# Altium integrated library Ocean.IntLib: 60 symbols
Pins are listed as number, name and electrical type; pins without a type are passive.

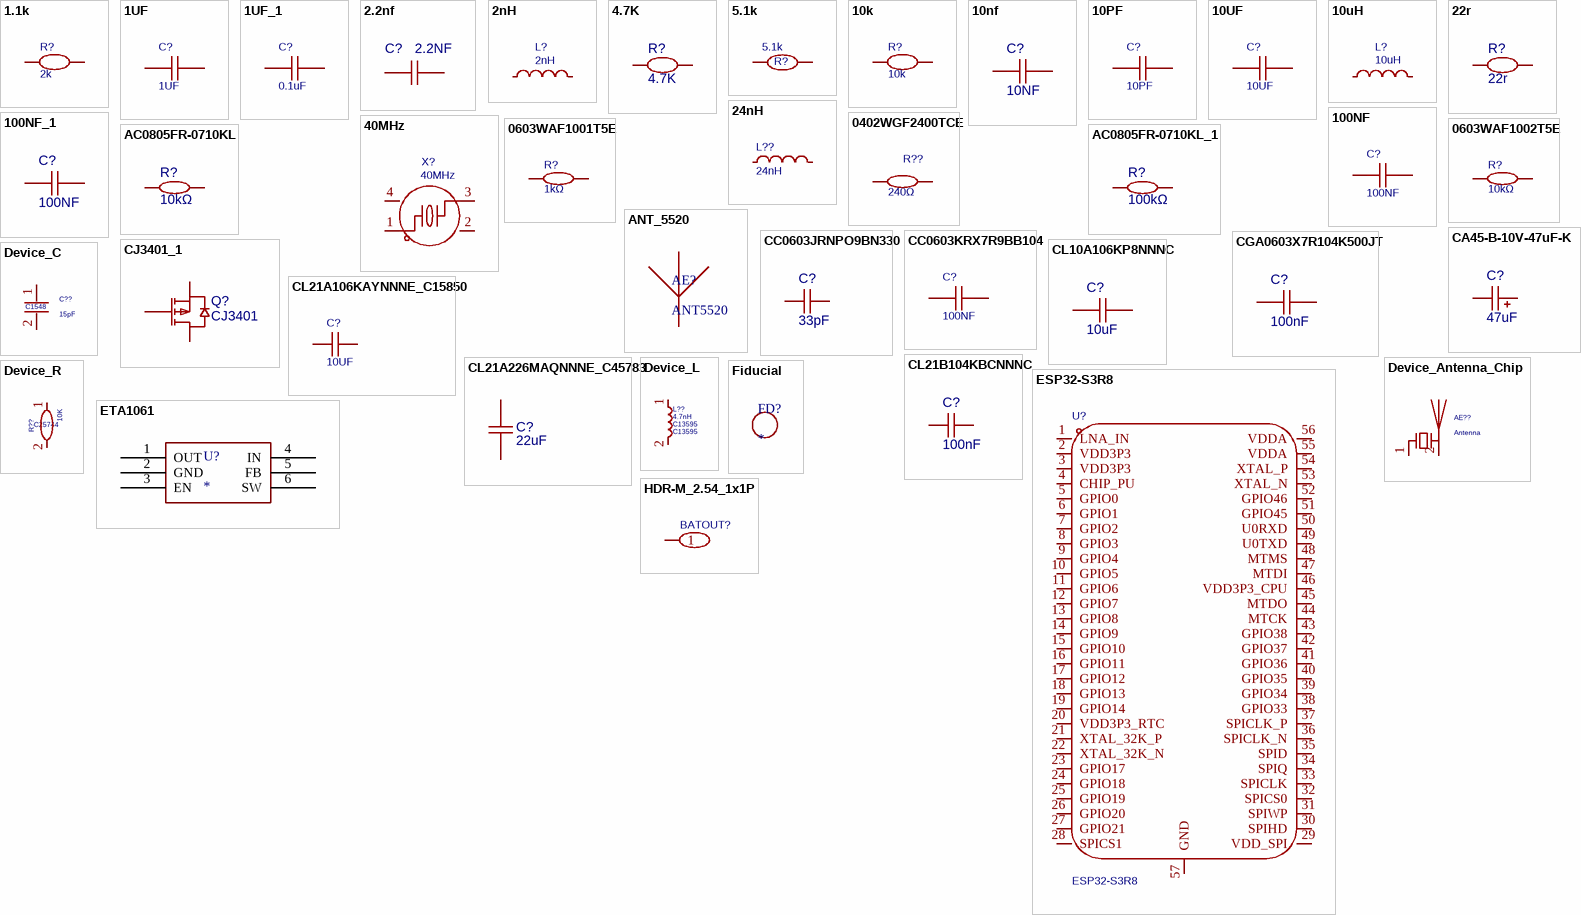
[diagram p0: symbols 1.1k to HDR-M_2.54_1x1P]

## 1.1k
designator R?, comment 2k
Symbol: 1.1k; Add into BOM: yes; Origin Footprint: R0603; ModelId: fc143cca1e79419f9cd78b61e9279f08; Device: 1.1k; Convert to PCB: yes; FootprintName: R0603; ModelName: R0603
footprint R0603
pins: 1, 2

## 1UF
designator C?
Add into BOM: yes; Origin Footprint: C0603; ModelId: fca5be93b99f4b5a9a2fd372d58c31d9; Symbol: 1UF; Device: 1UF; Convert to PCB: yes; FootprintName: C0603; ModelName: C0603
footprint C0402
pins: 1, 2

## 1UF_1
designator C?, comment 0.1uF
Symbol: 1UF; Add into BOM: yes; Origin Footprint: C0603; ModelId: fca5be93b99f4b5a9a2fd372d58c31d9; Device: 1UF; Convert to PCB: yes; FootprintName: C0603; ModelName: C0603
footprint C0603
pins: 1, 2

## 2.2nf
designator C?, comment 2.2NF
Add into BOM: yes; 3D Model: ac9b32e974bc448eab36b1293f859dcb; 3D Model Transform: v2:[39.37007874015748,0,0,0,39.37007874015748,0,0,0,39.37007874015748,0,0,0]; ModelName: C0603_L1.6-W0.8-H0.8; Symbol: 2.2nf; Device: 2.2nf; Convert to PCB: yes; FootprintName: C0603
footprint C0603
3D model C0603_L1.6-W0.8-H0.8
pins: 1, 2

## 2nH
designator L?
Add into BOM: yes; Origin Footprint: L0603; Symbol: 2nH; Device: 2nH; Convert to PCB: yes; FootprintName: L0603
footprint L0603
pins: 1, 2

## 4.7K
designator R?
Add into BOM: yes; 3D Model: 6bd5cd867e9542ebae21caaf5d2d4c4d; 3D Model Transform: v2:[2.410722045565656e-15,39.37007874015748,0,-39.37007874015748,2.410722045565656e-15,0,0,0,39.37007874015748,0,0,0]; ModelName: R0603; Symbol: 4.7K; Device: 4.7K; Convert to PCB: yes; FootprintName: R0603
footprint R0603
3D model R0603
pins: 1, 2

## 5.1k
designator R?
Add into BOM: yes; Origin Footprint: R0603; ModelId: fc143cca1e79419f9cd78b61e9279f08; Symbol: 5.1k; Device: 5.1k; Convert to PCB: yes; FootprintName: R0603; ModelName: R0603
footprint R0603
pins: 1, 2

## 10k
designator R?
Add into BOM: yes; Origin Footprint: R0603; ModelId: fc143cca1e79419f9cd78b61e9279f08; Symbol: 10k; Device: 10k; Convert to PCB: yes; FootprintName: R0603; ModelName: R0603
footprint R0603
pins: 1, 2

## 10nf
designator C?, comment 10NF
Add into BOM: yes; 3D Model: ac9b32e974bc448eab36b1293f859dcb; 3D Model Transform: v2:[39.37007874015748,0,0,0,39.37007874015748,0,0,0,39.37007874015748,0,0,0]; ModelName: C0603_L1.6-W0.8-H0.8; Symbol: 10nf; Device: 10nf; Convert to PCB: yes; FootprintName: C0603
footprint C0603
3D model C0603_L1.6-W0.8-H0.8
pins: 1, 2

## 10PF
designator C?
Add into BOM: yes; Origin Footprint: C0603; ModelId: fca5be93b99f4b5a9a2fd372d58c31d9; Symbol: 10PF; Device: 10PF; Convert to PCB: yes; FootprintName: C0603; ModelName: C0603
footprint C0603
pins: 1, 2

## 10UF
designator C?
Add into BOM: yes; Origin Footprint: C0603; ModelId: fca5be93b99f4b5a9a2fd372d58c31d9; Symbol: 10UF; Device: 10UF; Convert to PCB: yes; FootprintName: C0603; ModelName: C0603
footprint C0603
pins: 1, 2

## 10uH
designator L?
Manufacturer: SXN(顺翔诺); Add into BOM: yes; Origin Footprint: IND-SMD_L5.2-W5.2_MCW-0530; Symbol: 10uH; Device: 10uH; Convert to PCB: yes; Supplier: LCSC; Supplier Part: C181721; JLCPCB Part Class: Extended Part; FootprintName: IND-SMD_L5.2-W5.2_MCW-0530
footprint IND-SMD_L5.2-W5.2_MCW-0530
pins: 1, 2

## 22r
designator R?
Add into BOM: yes; 3D Model: 6bd5cd867e9542ebae21caaf5d2d4c4d; 3D Model Transform: v2:[2.410722045565656e-15,39.37007874015748,0,-39.37007874015748,2.410722045565656e-15,0,0,0,39.37007874015748,0,0,0]; ModelName: R0603; Symbol: 22r; Device: 22r; Convert to PCB: yes; FootprintName: R0603
footprint R0603
3D model R0603
pins: 1, 2

## 24nH
designator L??
Add into BOM: yes; Origin Footprint: L0603; Symbol: 24nH; Device: 24nH; Convert to PCB: yes; FootprintName: L0603
footprint L0603
pins: 1, 2

## 40MHz
designator X?
Manufacturer: JGHC(晶光华); Add into BOM: yes; Origin Footprint: CRYSTAL-SMD_4P-L2.5-W2.0-BL; ModelId: d23e0abc26e54c15b6292fd5f43702fa; Symbol: 40MHz; Device: 40MHz; Convert to PCB: yes; Supplier: LCSC; Supplier Part: C555614; JLCPCB Part Class: Extended Part; FootprintName: CRYSTAL-SMD_4P-L2.5-W2.0-BL; ModelName: CRYSTAL-SMD_4P-L2.5-W2.0-BL
footprint CRYSTAL-SMD_4P-L2.5-W2.0-BL
pins: 1, 2 GND, 3, 4 GND

## 100NF
designator C?
Add into BOM: yes; Origin Footprint: C0603; ModelId: fca5be93b99f4b5a9a2fd372d58c31d9; Symbol: 100NF; Device: 100NF; Convert to PCB: yes; FootprintName: C0603; ModelName: C0603
footprint C0603
pins: 1, 2

## 100NF_1
designator C?, comment 100NF
Symbol: 100NF_2; Device: 100NF_1; Add into BOM: yes; 3D Model: ac9b32e974bc448eab36b1293f859dcb; 3D Model Transform: v2:[39.37007874015748,0,0,0,39.37007874015748,0,0,0,39.37007874015748,0,0,0]; ModelName: C0603_L1.6-W0.8-H0.8; Convert to PCB: yes; FootprintName: C0603
footprint C0603
3D model C0603_L1.6-W0.8-H0.8
pins: 1, 2

## 0402WGF2400TCE
designator R??  value 240Ω  (hidden comment: 0402WGF2400TCE)
阻值:240Ω;精度:±1%;功率:62.5mW;温度系数:±100ppm/℃;电阻类型:厚膜电阻;; Manufacturer: UNI-ROYAL(厚声); AddInBom: yes; ModelId: 671aefced39d4c318694bba8bd8efd39; ModelName: R0402_L1.0-W0.5-H0.5; ModelTransform: 39.37,19.685,0,0,0,0,0,0.0005,0; Tolerance: ±1%; Power(Watts): 62.5mW; Overload Voltage (Max): 50V; JLCPCB Part Class: Extended Part; Symbol: 0402WGF2400TCE; Device: 0402WGF2400TCE; Supplier: LCSC; Manufacturer Part: 0402WGF2400TCE; Supplier Part: C25094; LCSC Part Name: 240Ω ±1% 62.5mW 厚膜电阻; Supplier Footprint: 0402; Datasheet: https://atta.szlcsc.com/upload/public/pdf/source/20200306/C422600_1E6D84923E4A46A82E41ADD87F860B5C.pdf; ConvertToPcb: yes; FootprintName: R0402; Temperature Coefficient: ±100ppm/℃; Type: 厚膜电阻; Operating Temperature Range: -55℃~+155℃
footprint R0402
pins: 1, 2

## 0603WAF1001T5E
designator R?, comment 1kΩ
电阻类型:厚膜电阻;阻值:1kΩ;精度:±1%;功率:100mW;工作电压:75V;温度系数:±100ppm/℃;; Manufacturer: UNI-ROYAL(厚声); Symbol: 0603WAF1001T5E; Add into BOM: yes; 3D Model: fc143cca1e79419f9cd78b61e9279f08; 3D Model Transform: 31.8897,63.7794,0,90,0,0,0,0,0; Tolerance: ±1%; Power(Watts): 100mW; Voltage-Supply(Max): 75V; ModelName: R0603; Device: 0603WAF1001T5E; Convert to PCB: yes; Supplier Part: C21190; Supplier: LCSC; Manufacturer Part: 0603WAF1001T5E; LCSC Part Name: 1kΩ ±1% 100mW 厚膜电阻; Supplier Footprint: 0603; JLCPCB Part Class: Basic Part; Datasheet: https://item.szlcsc.com/datasheet/0603WAF1001T5E/21904.html; Type: 厚膜电阻; Value: 1kΩ; Temperature Coefficient: ±100ppm/℃; Operating Temperature: -55℃~+155℃; FootprintName: R0603
footprint R0603
3D model R0603
pins: 1, 2

## 0603WAF1002T5E
designator R?, comment 10kΩ
电阻类型:厚膜电阻;阻值:10kΩ;精度:±1%;功率:100mW;工作电压:75V;温度系数:±100ppm/℃;; Manufacturer: UNI-ROYAL(厚声); Symbol: 0603WAF1002T5E; Add into BOM: yes; 3D Model: fc143cca1e79419f9cd78b61e9279f08; 3D Model Transform: 31.8897,63.7794,0,90,0,0,0,0,0; Tolerance: ±1%; Power(Watts): 100mW; Voltage-Supply(Max): 75V; ModelName: R0603; Device: 0603WAF1002T5E; Convert to PCB: yes; Supplier Part: C25804; Supplier: LCSC; Manufacturer Part: 0603WAF1002T5E; LCSC Part Name: 厚膜电阻 10kΩ ±1% 100mW; Supplier Footprint: 0603; JLCPCB Part Class: Basic Part; Datasheet: https://item.szlcsc.com/datasheet/0603WAF1002T5E/26547.html; Type: 厚膜电阻; Value: 10kΩ; Temperature Coefficient: ±100ppm/℃; Operating Temperature: -55℃~+155℃; FootprintName: R0603
footprint R0603
3D model R0603
pins: 1, 2

## AC0805FR-0710KL
designator R?, comment 10kΩ
电阻类型:厚膜电阻;阻值:10kΩ;精度:±1%;功率:125mW;; Manufacturer: YAGEO(国巨); Symbol: 10K_1; Device: AC0805FR-0710KL; Add into BOM: yes; Origin Footprint: R0805; 3D Model: 37a81e68749a4138bd2dfa6897b24b85; 3D Model Transform: 78.74,51.181,0,0,0,0,0,-0.0005,0; Tolerance: ±1%; Power(Watts): 125mW; Temperature Coefficient: ±100ppm/℃; Overload Voltage (Max): 150V; ModelName: R0805_L2.0-W1.3-H0.6; Convert to PCB: yes; Resistance: 10kΩ; LCSC Part Name: 10kΩ ±1% 125mW; Supplier Part: C140868; Manufacturer Part: AC0805FR-0710KL; Supplier Footprint: 0805; JLCPCB Part Class: Extended Part; Datasheet: https://atta.szlcsc.com/upload/public/pdf/source/20171113/C140868_15105613027091115785.pdf; Supplier: LCSC; Type: 厚膜电阻; Value: 10kΩ; Operating Temperature Range: -55℃~+155℃; FootprintName: R0603
footprint R0603
3D model R0805_L2.0-W1.3-H0.6
pins: 1, 2

## AC0805FR-0710KL_1
designator R?, comment 100kΩ
电阻类型:厚膜电阻;阻值:10kΩ;精度:±1%;功率:125mW;; Manufacturer: YAGEO(国巨); Symbol: 10K_1; Device: AC0805FR-0710KL; Add into BOM: yes; Origin Footprint: R0805; 3D Model: 37a81e68749a4138bd2dfa6897b24b85; 3D Model Transform: 78.74,51.181,0,0,0,0,0,-0.0005,0; Tolerance: ±1%; Power(Watts): 125mW; Temperature Coefficient: ±100ppm/℃; Overload Voltage (Max): 150V; ModelName: R0805_L2.0-W1.3-H0.6; Convert to PCB: yes; Value: 100kΩ; Resistance: 100kΩ; LCSC Part Name: 10kΩ ±1% 125mW; Manufacturer Part: AC0805FR-0710KL; Supplier Footprint: 0805; JLCPCB Part Class: Extended Part; Datasheet: https://atta.szlcsc.com/upload/public/pdf/source/20171113/C140868_15105613027091115785.pdf; Supplier: LCSC; Type: 厚膜电阻; Operating Temperature Range: -55℃~+155℃; FootprintName: R0603
footprint R0603
3D model R0805_L2.0-W1.3-H0.6
pins: 1, 2

## ANT_5520
designator AE?, comment ANT5520
footprint ANT_5520
pins: 1 ANT, 2

## CA45-B-10V-47uF-K
designator C?, comment 47uF
容值:47uF;精度:±10%;额定电压:10V;等效串联电阻:2.4Ω@100kHz;; Manufacturer: CEC(振华新云); Device: CA45-B-10V-47uF-K; Add into BOM: yes; Origin Footprint: CAP-SMD_L3.5-W2.8-R-RD; 3D Model: b77bd53aeda446d2bdd09b0fdaf9418a; 3D Model Transform: 145.669,110.236,0,0,0,0,0,0,0; Tolerance: ±10%; Rated Voltage: 10V; ModelName: CASE-B_L3.5-W2.8-H1.9; Symbol: 47uF; Convert to PCB: yes; LCSC Part Name: 47uF ±10% 10V; Supplier Part: C136658; Manufacturer Part: CA45-B-10V-47uF-K; Supplier Footprint: CASE-B-3528; JLCPCB Part Class: Extended Part; Datasheet: https://atta.szlcsc.com/upload/public/pdf/source/20171123/C136658_15114108124621137439.pdf; Supplier: LCSC; Value: 47uF; Equivalent Series Resistance(ESR): 2.4Ω@100kHz; Operating Temperature: -55℃~+125℃; FootprintName: CASE-B_3528
footprint CASE-B_3528
3D model CASE-B_L3.5-W2.8-H1.9
pins: 1, 2

## CC0603JRNPO9BN330
designator C?, comment 33pF
容值:33pF;精度:±5%;额定电压:50V;温度系数:NP0;; Manufacturer: YAGEO(国巨); Symbol: CC0603JRNPO9BN330; Add into BOM: yes; 3D Model: ac9b32e974bc448eab36b1293f859dcb; 3D Model Transform: 62.992,31.496,0,0,0,0,0,0,0; Tolerance: ±5%; Voltage Rating: 50V; Temperature Coefficient: NP0; ModelName: C0603_L1.6-W0.8-H0.8; Device: CC0603JRNPO9BN330; Convert to PCB: yes; LCSC Part Name: 33pF ±5% 50V; Supplier Part: C107047; Manufacturer Part: CC0603JRNPO9BN330; Supplier Footprint: 0603; JLCPCB Part Class: Extended Part; Datasheet: https://item.szlcsc.com/datasheet/CC0603JRNPO9BN330/108263.html; Supplier: LCSC; Value: 33pF; FootprintName: C0603
footprint C0603
3D model C0603_L1.6-W0.8-H0.8
pins: 1, 2

## CC0603KRX7R9BB104
designator C?, comment 100NF
容值:100nF;精度:±10%;额定电压:50V;材质(温度系数):X7R;; Manufacturer: YAGEO(国巨); Symbol: CC0603KRX7R9BB104; 3D Model: ac125912035d415993ca9572d50418b1; 3D Model Transform: 62.992,31.496,0,0,0,0,0,0,0; Tolerance: ±10%; Voltage Rated: 50V; Temperature Coefficient: X7R; AddInBom: yes; ModelName: C0603_L1.6-W0.8-H0.8; Device: CC0603KRX7R9BB104; LCSC Part Name: 100nF ±10% 50V; Manufacturer Part: CC0603KRX7R9BB104; Supplier Footprint: 0603; JLCPCB Part Class: 基础库; Datasheet: https://atta.szlcsc.com/upload/public/pdf/source/20180910/C282072_33301C7F631E79921B82A8DAC6BCC5B3.pdf; Supplier: LCSC; Value: 100NF; ConvertToPcb: yes; FootprintName: C0603
footprint C0603
3D model C0603_L1.6-W0.8-H0.8
pins: 1, 2

## CGA0603X7R104K500JT
designator C?, comment 100nF
容值:100nF;精度:±10%;额定电压:50V;温度系数:X7R;; Manufacturer: HRE(芯声); Symbol: CGA0603X7R104K500JT; Add into BOM: yes; 3D Model: ac9b32e974bc448eab36b1293f859dcb; 3D Model Transform: 62.992,31.496,0,0,0,0,0,0,0; Tolerance: ±10%; Voltage Rating: 50V; Temperature Coefficient: X7R; ModelName: C0603_L1.6-W0.8-H0.8; Device: CGA0603X7R104K500JT; Convert to PCB: yes; LCSC Part Name: 100nF ±10% 50V; Supplier Part: C6119867; Manufacturer Part: CGA0603X7R104K500JT; Supplier Footprint: 0603; JLCPCB Part Class: Extended Part; Datasheet: https://item.szlcsc.com/datasheet/CGA0603X7R104K500JT/7062573.html; Supplier: LCSC; Value: 100nF; FootprintName: C0603
footprint C0603
3D model C0603_L1.6-W0.8-H0.8
pins: 1, 2

## CJ3401_1
designator Q?, comment CJ3401
类型:P沟道;漏源电压(Vdss):30V;连续漏极电流(Id):4.2A;功率(Pd):350mW;导通电阻(RDS(on)@Vgs,Id):65mΩ@10V,4.2A;; Manufacturer: CJ(江苏长电/长晶); Device: CJ3401_1; Add into BOM: yes; Origin Footprint: SOT-23-3_L2.9-W1.6-P1.90-LS2.8-BR; 3D Model: 89cb27a44ab2466697082bb9fd73a7d0; 3D Model Transform: 110.236,114.173,0,180,0,0,-0.005,0.0005,0; Type: P沟道; Drain Source Voltage (Vdss): 30V; Power Dissipation (Pd): 350mW; Gate Threshold Voltage (Vgs(th)@Id): 1.3V@250uA; ModelName: SOT-23-3L_L2.9-W1.6-H1.1-LS2.8-P0.95; Symbol: CJ3401; Convert to PCB: yes; LCSC Part Name: P沟道 30V 4.2A; Supplier Part: C13799; Manufacturer Part: CJ3401; Supplier Footprint: SOT-23; JLCPCB Part Class: Extended Part; Datasheet: https://atta.szlcsc.com/upload/public/pdf/source/20140815/1457707217656.pdf; Supplier: LCSC; Continuous Drain Current (Id): 4.2A; Drain Source On Resistance (RDS(on)@Vgs,Id): 65mΩ@10V,4.2A; FootprintName: SOT-23-3_L2.9-W1.6-P1.90-LS2.8-BR_1
footprint SOT-23-3_L2.9-W1.6-P1.90-LS2.8-BR_1
3D model SOT-23-3L_L2.9-W1.6-H1.1-LS2.8-P0.95
pins: 1 G, 2 S, 3 D

## CL10A106KP8NNNC
designator C?, comment 10uF
容值:10uF;精度:±10%;额定电压:10V;温度系数:X5R;; Manufacturer: SAMSUNG(三星); Symbol: CL10A106KP8NNNC; Add into BOM: yes; 3D Model: 1ba041120af144c991958decab20d241; 3D Model Transform: 62.992,31.496,0,0,0,0,0,0,0; Tolerance: ±10%; Temperature Coefficient: X5R; Voltage Rating: 10V; ModelName: C0603_L1.6-W0.8-H0.8; Device: CL10A106KP8NNNC; Convert to PCB: yes; LCSC Part Name: 10uF ±10% 10V; Supplier Part: C19702; Manufacturer Part: CL10A106KP8NNNC; Supplier Footprint: 0603; JLCPCB Part Class: Basic Part; Datasheet: https://item.szlcsc.com/datasheet/CL10A106KP8NNNC/20411.html; Supplier: LCSC; Value: 10uF; FootprintName: C0603
footprint C0603
3D model C0603_L1.6-W0.8-H0.8
pins: 1, 2

## CL21A106KAYNNNE_C15850
designator C?, comment 10UF
容值:10uF;精度:±10%;额定电压:25V;材质(温度系数):X5R;; Manufacturer: SAMSUNG(三星); Symbol: CL21A106KAYNNNE; Device: CL21A106KAYNNNE_C15850; 3D Model: 1ba041120af144c991958decab20d241; 3D Model Transform: 78.74,51.181,0,0,0,0,0,0.0005,0; Tolerance: ±10%; Voltage Rated: 25V; Temperature Coefficient: X5R; AddInBom: yes; ModelName: C0805_L2.0-W1.3-H1.3; LCSC Part Name: 10uF ±10% 25V; Manufacturer Part: CL21A106KAYNNNE; Supplier Footprint: 0805; JLCPCB Part Class: 基础库; Datasheet: https://atta.szlcsc.com/upload/public/pdf/source/20160103/1457707679302.pdf; Supplier: LCSC; Value: 10UF; ConvertToPcb: yes; FootprintName: C0805
footprint C0805
3D model C0805_L2.0-W1.3-H1.3
pins: 1, 2

## CL21A226MAQNNNE_C45783
designator C?, comment 22uF
容值:22uF;精度:±20%;额定电压:25V;材质(温度系数):X5R;; Manufacturer: SAMSUNG(三星); Manufacturer Part: CL21A226MAQNNNE; Device: CL21A226MAQNNNE_C45783; Add into BOM: yes; Origin Footprint: C0805; 3D Model: 1ba041120af144c991958decab20d241; 3D Model Transform: 78.74,51.181,0,0,0,0,0,0.0005,0; Tolerance: ±20%; Voltage Rated: 25V; Temperature Coefficient: X5R; ModelName: C0805_L2.0-W1.3-H1.3; Symbol: 22uF; Convert to PCB: yes; LCSC Part Name: 22uF ±20% 25V; Supplier Part: C45783; Supplier Footprint: 0805; JLCPCB Part Class: Basic Part; Datasheet: https://atta.szlcsc.com/upload/public/pdf/source/20160103/1457707727161.pdf; Supplier: LCSC; Value: 22uF; FootprintName: C0603
footprint C0603
3D model C0805_L2.0-W1.3-H1.3
pins: 1, 2

## CL21B104KBCNNNC
designator C?, comment 100nF
容值:100nF;精度:±10%;额定电压:50V;材质(温度系数):X7R;; Manufacturer: SAMSUNG(三星); Symbol: 100nF_1; Device: CL21B104KBCNNNC; Add into BOM: yes; Origin Footprint: C0805; 3D Model: 1ba041120af144c991958decab20d241; 3D Model Transform: 78.74,51.181,0,0,0,0,0,0.0005,0; Tolerance: ±10%; Voltage Rated: 50V; Temperature Coefficient: X7R; ModelName: C0805_L2.0-W1.3-H1.3; Convert to PCB: yes; LCSC Part Name: 100nF ±10% 50V; Supplier Part: C1711; Manufacturer Part: CL21B104KBCNNNC; Supplier Footprint: 0805; JLCPCB Part Class: Extended Part; Datasheet: https://atta.szlcsc.com/upload/public/pdf/source/20160103/1457707693305.pdf; Supplier: LCSC; Value: 100nF; FootprintName: C0603
footprint C0603
3D model C0805_L2.0-W1.3-H1.3
pins: 1, 2

## Device_Antenna_Chip
designator AE??  value Antenna  (hidden comment: Device_Antenna_Chip)
UniqueId: fd78ff43abfaca39; Attribute1: AE1; AddInBom: yes; Device: Device_Antenna_Chip; Symbol: Device_Antenna_Chip; UserDocLink: ~; ki_keywords: antenna; FootprintName: RF_Antenna:Texas_SWRA117D_2.4GHz_Left
footprint RF_Antenna:Texas_SWRA117D_2.4GHz_Left
pins: 1 FEED, 2 PCB_Trace

## Device_C
designator C??, comment LCSC: C1548  (hidden comment: 15pF)
Device: Device_C; ki_keywords: cap capacitor; ki_fp_filters: C_*; UniqueId: 7237750993165679; Attribute1: C39; AddInBom: yes; Symbol: Device_C; UserDocLink: ~; MNF PART NUMBER: C1548; FootprintName: Capacitor_SMD:C_0402_1005Metric; Value: 15pF
footprint Capacitor_SMD:C_0402_1005Metric
pins: 1, 2

## Device_L
designator L??, comment MNF PART NUMBER: C13595  (hidden comment: 4.7nH)
Inductor; Device: Device_L; ki_keywords: inductor choke coil reactor magnetic; ki_fp_filters: Choke_* *Coil* Inductor_* L_*; UniqueId: 01f5988480b85854; Attribute1: L6; AddInBom: yes; Symbol: Device_L; UserDocLink: ~; FootprintName: Inductor_SMD:L_0402_1005Metric; Value: 4.7nH; LCSC: C13595
footprint Inductor_SMD:L_0402_1005Metric
pins: 1, 2

## Device_R
designator R??, comment LCSC: C25744  (hidden comment: 10K)
Device: Device_R; ki_keywords: R res resistor; ki_fp_filters: R_*; UniqueId: c67641ae573ea1fc; Attribute1: R28; AddInBom: yes; Symbol: Device_R; UserDocLink: ~; MNF PART NUMBER: C25744; FootprintName: Resistor_SMD:R_0402_1005Metric; Value: 10K
footprint Resistor_SMD:R_0402_1005Metric
pins: 1, 2

## ESP32-S3R8
designator U?
频率范围:2.412GHz~2.484GHz;接口类型:I2C；I2S；UART；USB；SPI;应用领域:蓝牙；IoT；WiFi;数据速率:150Mbps;灵敏度:-74.2dBm;典型应用频率:2.4GHz;; Manufacturer: ESPRESSIF(乐鑫); Symbol: ESP32-S3(R8); Add into BOM: yes; 3D Model: 105b388c0c03439aa7dbf35dd2b762a6; 3D Model Transform: 275.59,275.59,0,0,0,0,0,0,0; Voltage - Supply: 3V~3.6V; Output Power: 18.5dBm; Current Of Transmitting: 283mA; Receive Current: 88mA; Typical Application Frequency: 2.4GHz; ModelName: QFN-56_L7.0-W7.0-P0.40-TL-EP4.0; Device: ESP32-S3R8; Convert to PCB: yes; Supplier: LCSC; Supplier Part: C2913194; Manufacturer Part: ESP32-S3R8; JLCPCB Part Class: Extended Part; LCSC Part Name: 2.4GHz Wi-Fi + 低功耗蓝牙系统级芯片（SoC）; Supplier Footprint: QFN-56(7x7); Datasheet: https://item.szlcsc.com/datasheet/ESP32-S3R8/3198292.html; Frequency Range: 2.412GHz~2.484GHz; Interface: I2C；I2S；UART；USB；SPI; Applications: 蓝牙；IoT；WiFi; Data Rate: 150Mbps; Sensitivity: -74.2dBm; Operating Temperature: -40℃~+65℃; Type: 收发器; FootprintName: QFN-56_L7.0-W7.0-P0.40-TL-EP4.0
footprint QFN-56_L7.0-W7.0-P0.40-TL-EP4.0
3D model QFN-56_L7.0-W7.0-P0.40-TL-EP4.0
pins: 1 LNA_IN, 2 VDD3P3, 3 VDD3P3, 4 CHIP_PU, 5 GPIO0, 6 GPIO1, 7 GPIO2, 8 GPIO3, 9 GPIO4, 10 GPIO5, 11 GPIO6, 12 GPIO7, 13 GPIO8, 14 GPIO9, 15 GPIO10, 16 GPIO11, 17 GPIO12, 18 GPIO13, 19 GPIO14, 20 VDD3P3_RTC, 21 XTAL_32K_P, 22 XTAL_32K_N, 23 GPIO17, 24 GPIO18, 25 GPIO19, 26 GPIO20, 27 GPIO21, 28 SPICS1, 29 VDD_SPI, 30 SPIHD, 31 SPIWP, 32 SPICS0, 33 SPICLK, 34 SPIQ, 35 SPID, 36 SPICLK_N, 37 SPICLK_P, 38 GPIO33, 39 GPIO34, 40 GPIO35, 41 GPIO36, 42 GPIO37, 43 GPIO38, 44 MTCK, 45 MTDO, 46 VDD3P3_CPU, 47 MTDI, 48 MTMS, 49 U0TXD, 50 U0RXD, 51 GPIO45, 52 GPIO46, 53 XTAL_N, 54 XTAL_P, 55 VDDA, 56 VDDA, 57 GND

## ETA1061
designator U?
footprint SOT-23-6_L2.9-W1.6-P0.95-LS2.8-BL
pins: 1 OUT, 2 GND, 3 EN, 4 IN, 5 FB, 6 SW

## Fiducial
designator FD?
footprint FIDUCIAL_1MM

## HDR-M_2.54_1x1P
designator BATOUT?
Symbol: HDR_1x1; Device: HDR-M_2.54_1x1P; ConvertToPcb: yes; ModelId: 95857080d3cc4057a19a22ccce05e171聨0819f05c4eef4c71ace90d822a990e87; ModelName: HDR-TH_1P-V-M_XKB_X4611WV-01I-C28D40; ModelTransform: 78.74,79.1337,0,0,0,0,0,0,-110.236; AddInBom: yes; SupplierPart: C81276; Supplier Footprint: 插件; FootprintName: HDR-TH_1P-V-M_XKB_X4611WV-01I-C28D40; JLCPCB Part Class: Extended Part
footprint HDR-TH_1P-V-M_XKB_X4611WV-01I-C28D40
pins: 1

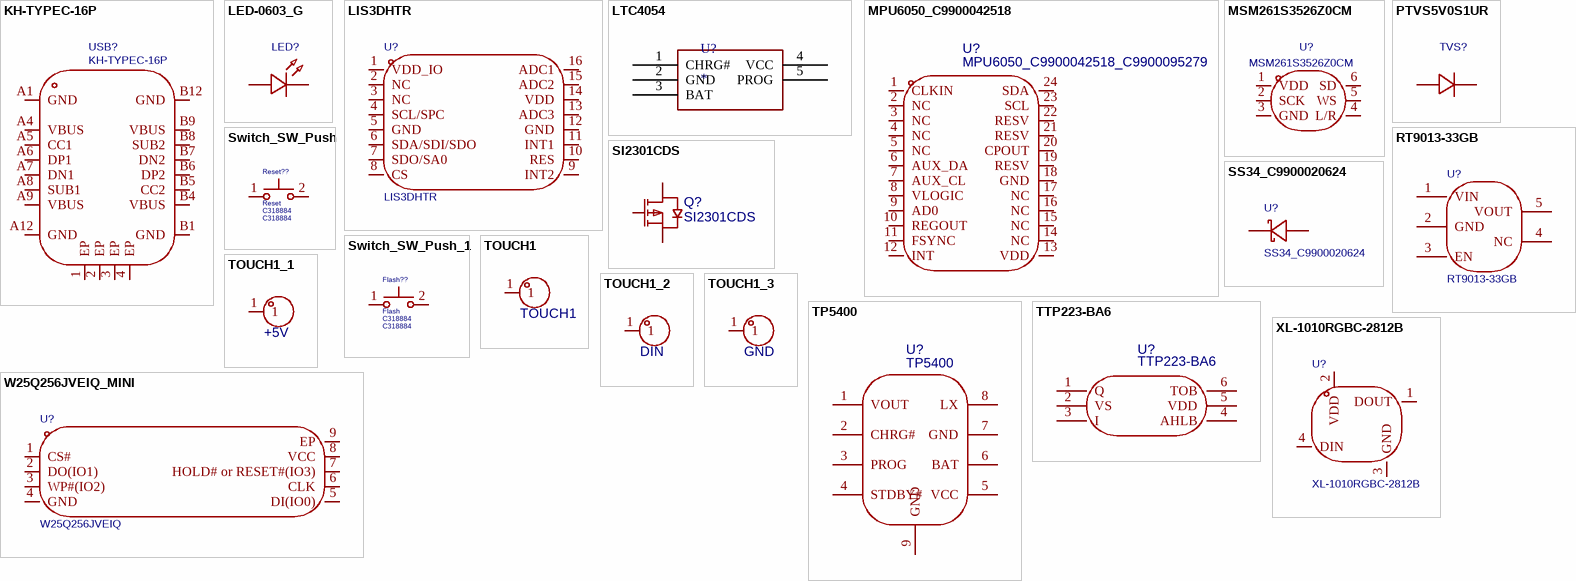
[diagram p1: symbols KH-TYPEC-16P to XL-1010RGBC-2812B]

## KH-TYPEC-16P
designator USB?
Add into BOM: yes; Origin Footprint: USB-TYPEC-16P; 是否验证: 是; Symbol: KH-TYPEC-16P; Device: KH-TYPEC-16P; Convert to PCB: yes; FootprintName: USB-TYPEC-16P
footprint USB-TYPEC-16P
footprint USB-TYPEC-16P-SMD
pins: 1 EP, 2 EP, 3 EP, 4 EP, A1 GND, A4 VBUS, A5 CC1, A6 DP1, A7 DN1, A8 SUB1, A9 VBUS, A12 GND, B1 GND, B4 VBUS, B5 CC2, B6 DP2, B7 DN2, B8 SUB2, B9 VBUS, B12 GND

## LED-0603_G
designator LED?  (value not drawn)
Manufacturer: EVERLIGHT(台湾亿光); Manufacturer Part: 19-217/GHC-YR1S2/3T; Add into BOM: yes; Origin Footprint: LED0603_GREEN; ModelId: 8b5fcaf0229049f8a37a9c352bb0ca0a; Symbol: LED-0603_G; Device: LED-0603_G; Convert to PCB: yes; Supplier Part: C72043; Supplier: LCSC; FootprintName: LED0603_GREEN; ModelName: LED-0603_G
footprint LED0603_GREEN
pins: 1, 2

## LIS3DHTR
designator U?
轴向:X,Y,Z;; Manufacturer: ST(意法半导体); Symbol: LIS3DHTR_C15134; AddInBom: yes; ModelId: 9ae441d1842848bda5fda48efd45bd94; ModelName: LGA-16_L3.0-W3.0-P0.50-TL; ModelTransform: 118.11,118.11,0,0,0,0,0,0,0; Axial Direction: X,Y,Z; Supply Voltage: 1.71V~3.6V; Device: LIS3DHTR; LCSC Part Name: LIS3DHTR; SupplierPart: C15134; ManufacturerPart: LIS3DHTR; Supplier Footprint: LGA-16(3x3); JLCPCB Part Class: 扩展库; Datasheet: https://atta.szlcsc.com/upload/public/pdf/source/20170502/1493709336456.pdf; Supplier: LCSC; ConvertToPcb: yes; FootprintName: LGA-16_L3.0-W3.0-P0.50-TL; Operating Temperature: -40℃~+85℃
footprint LGA-16_L3.0-W3.0-P0.50-TL
pins: 1 VDD_IO, 2 NC, 3 NC, 4 SCL/SPC, 5 GND, 6 SDA/SDI/SDO, 7 SDO/SA0, 8 CS, 9 INT2, 10 RES, 11 INT1, 12 GND, 13 ADC3, 14 VDD, 15 ADC2, 16 ADC1

## LTC4054
designator U?
footprint SOT-23-5_L3.0-W1.7-P0.95-LS2.8-BL
pins: 1 CHRG#, 2 GND, 3 BAT, 4 VCC, 5 PROG

## MPU6050_C9900042518
designator U?, comment MPU6050_C9900042518_C9900095279
Manufacturer: null; Add into BOM: yes; Symbol: MPU6050_C9900042518_C9900095279; Device: MPU6050_C9900042518; Convert to PCB: yes; Supplier: LCSC; Supplier Part: C9900095279; Manufacturer Part: MPU6050_C9900042518; JLCPCB Part Class: Extended Part; FootprintName: QFN-24_L4.0-W4.0-P0.50-BL
footprint QFN-24_L4.0-W4.0-P0.50-BL
pins: 1 CLKIN, 2 NC, 3 NC, 4 NC, 5 NC, 6 AUX_DA, 7 AUX_CL, 8 VLOGIC, 9 AD0, 10 REGOUT, 11 FSYNC, 12 INT, 13 VDD, 14 NC, 15 NC, 16 NC, 17 NC, 18 GND, 19 RESV, 20 CPOUT, 21 RESV, 22 RESV, 23 SCL, 24 SDA

## MSM261S3526Z0CM
designator U?
方向:全指向;信噪比:64dB;灵敏度:-26dB;阻抗:-;; Manufacturer: MEMS(敏芯微); Symbol: MSM261S3526Z0CM_1; Add into BOM: yes; 3D Model: 76b3790cc1704d2883f926567aae47b1; 3D Model Transform: 106.299,137.795,0,0,0,0,0,0,0; Direction: 全指向; Supply Voltage: 1.8V; Current Consumption: 750uA; SNR(Signal to Noise Ratio): 64dB; Sensitivity: -26dB; ModelName: MIC-SMD_6P-L3.5-W2.7-P0.90-TR; Device: MSM261S3526Z0CM; Convert to PCB: yes; Supplier: LCSC; Supplier Part: C966933; Manufacturer Part: MSM261S3526Z0CM; JLCPCB Part Class: Extended Part; LCSC Part Name: MSM261S3526Z0CM; Supplier Footprint: LGA-6(2.7x3.5); Datasheet: https://atta.szlcsc.com/upload/public/pdf/source/20210104/C966933_3269232C81BB891E12095FC7E88FC637.pdf; Impedance: -; FootprintName: MIC-SMD_6P-L3.5-W2.7-P0.90-TR
footprint MIC-SMD_6P-L3.5-W2.7-P0.90-TR
3D model MIC-SMD_6P-L3.5-W2.7-P0.90-TR
pins: 1 VDD, 2 SCK, 3 GND, 4 L/R, 5 WS, 6 SD

## PTVS5V0S1UR
designator TVS?  (value not drawn)
Manufacturer: EVERLIGHT(台湾亿光); Manufacturer Part: 19-217/GHC-YR1S2/3T; Symbol: LED-0603_G; Add into BOM: yes; Origin Footprint: LED0603_GREEN; ModelId: 8b5fcaf0229049f8a37a9c352bb0ca0a; Device: LED-0603_G; Convert to PCB: yes; Supplier Part: C72043; Supplier: LCSC; FootprintName: LED0603_GREEN; ModelName: LED-0603_G
footprint PTVS5V0S1UR-SMD
pins: 1, 2

## RT9013-33GB
designator U?
输出类型:固定;输出极性:正;最大输入电压:5.5V;输出电压:3.3V;输出电流:500mA;电源纹波抑制比(PSRR):50dB@(10kHz);; Manufacturer: RICHTEK(立锜); 3D Model: 0a2a1b8f50944f73965918ad6e5fe167; 3D Model Transform: 118.60433,114.173,0,90,0,0,0.0005,0.0005,0; Output Type: 固定; Output Polarity: 正; Number of Outputs: 1; Maximum Input Voltage: 5.5V; Output Voltage: 3.3V; Dropout Voltage: 400mV@(500mA); Quiescent Current (Ground Current): 50uA; Output Current: 500mA; AddInBom: yes; ModelName: SOT-23-5_L2.9-W1.6-H1.1-LS2.8-P0.95; Symbol: RT9013-33GB; Device: RT9013-33GB; LCSC Part Name: 输入5.5V 输出3.3V 500mA; Supplier Footprint: SOT-23-5; Datasheet: https://atta.szlcsc.com/upload/public/pdf/source/20150504/1457707282459.pdf; Power Supply Rejection Ratio (PSRR): 50dB@(10kHz); Noise: -; Feature: -; Operating Temperature: -40℃~+85℃; Supplier: LCSC; Manufacturer Part: RT9013-33GB; Supplier Part: C47773; JLCPCB Part Class: 扩展库; ConvertToPcb: yes; FootprintName: SOT-23-5_L3.0-W1.7-P0.95-LS2.8-BL
footprint SOT-23-5_L3.0-W1.7-P0.95-LS2.8-BL
3D model SOT-23-5_L2.9-W1.6-H1.1-LS2.8-P0.95
pins: 1 VIN, 2 GND, 3 EN, 4 NC, 5 VOUT

## SI2301CDS
designator Q?
Manufacturer: TECH PUBLIC(台舟); Add into BOM: yes; 3D Model: d777607a152f4f3aac9bb0d0c14ed6fd; 3D Model Transform: v2:[-39.37007874015748,4.821444091131312e-15,0,-4.821444091131312e-15,-39.37007874015748,0,0,0,39.37007874015748,0.001,-0.001,0]; ModelName: SOT-23-3P_L2.9-W1.3-H1.0-LS2.4-P0.95; Symbol: SI2301CDS; Device: SI2301CDS; Convert to PCB: yes; Supplier: LCSC; Supplier Part: C2841446; Manufacturer Part: SI2301CDS; JLCPCB Part Class: Extended Part; FootprintName: SOT-23-3_L2.9-W1.3-P1.90-LS2.4-BR
footprint SOT-23-3_L2.9-W1.3-P1.90-LS2.4-BR
3D model SOT-23-3P_L2.9-W1.3-H1.0-LS2.4-P0.95
pins: 1 G, 2 S, 3 D

## SS34_C9900020624
designator U?
Manufacturer: null; Add into BOM: yes; Origin Footprint: SMA_L4.3-W2.6-LS5.1-R-RD; ModelId: 6890bb9641474820a71fce2135ca3aaa; Symbol: SS34_C9900020624; Device: SS34_C9900020624; Convert to PCB: yes; Supplier: LCSC; Supplier Part: C9900020624; JLCPCB Part Class: Extended Part; FootprintName: SMA_L4.3-W2.6-LS5.1-R-RD; ModelName: SMA_L4.3-W2.6-LS5.1-R-RD
footprint SMA_L4.3-W2.6-LS5.1-R-RD
pins: 1 A, 2 K

## Switch_SW_Push
designator Reset??  value Reset  MNF PART NUMBER: C318884  (hidden comment: Switch_SW_Push)
Push button switch, generic, two pins; ki_keywords: switch normally-open pushbutton push-button; UniqueId: ee72961b44fdc9c7; Attribute1: BTN1; AddInBom: yes; Device: Switch_SW_Push; Symbol: Switch_SW_Push; UserDocLink: ~; FootprintName: Button_Switch_SMD:SW_Push_1P1T_XKB_TS-1187A; LCSC: C318884
footprint Button_Switch_SMD:SW_Push_1P1T_XKB_TS-1187A
pins: 1, 2

## Switch_SW_Push_1
designator Flash??, comment value Flash  MNF PART NUMBER: C318884  (hidden comment: Switch_SW_Push)
Push button switch, generic, two pins; ki_keywords: switch normally-open pushbutton push-button; UniqueId: 72b350080366b32d; Attribute1: BTN1; AddInBom: yes; Device: Switch_SW_Push; Symbol: Switch_SW_Push; UserDocLink: ~; FootprintName: Button_Switch_SMD:SW_Push_1P1T_XKB_TS-1187A; LCSC: C318884
footprint Button_Switch_SMD:SW_Push_1P1T_XKB_TS-1187A
pins: 1, 2

## TOUCH1
designator TOUCH?
Add into BOM: yes; Origin Footprint: 2.54焊盘-1P; Symbol: TOUCH1; Device: TOUCH1; Convert to PCB: yes
footprint 2.54焊盘-1p
pins: 1

## TOUCH1_1
designator T?, comment +5V
Symbol: TOUCH1; Add into BOM: yes; Origin Footprint: 2.54焊盘-1P; Device: TOUCH1; Convert to PCB: yes
footprint 2.54焊盘-1p
pins: 1

## TOUCH1_2
designator T?, comment DIN
Symbol: TOUCH1; Add into BOM: yes; Origin Footprint: 2.54焊盘-1P; Device: TOUCH1; Convert to PCB: yes
footprint 2.54焊盘-1p
pins: 1

## TOUCH1_3
designator T?, comment GND
Symbol: TOUCH1; Add into BOM: yes; Origin Footprint: 2.54焊盘-1P; Device: TOUCH1; Convert to PCB: yes
footprint 2.54焊盘-1p
pins: 1

## TP5400
designator U?
锂电池充电，升压二合一芯片，南京拓品微电子有限公司生产; Manufacturer: TOPPOWER(南京拓微); Symbol: TP5400_1; Add into BOM: yes; Origin Footprint: SOIC-8_L5.0-W4.0-P1.27-LS6.0-BL-EP; 3D Model: d3e00daa36c445139c055a3b9efb85d2; 3D Model Transform: 240.157,192.913,0,90,0,0,0,0,0; ModelName: ESOP-8_L4.9-W3.9-H1.6-LS6.0-P1.27; Device: TP5400; Convert to PCB: yes; JLCPCB Part Class: Extended Part; image: //image.lceda.cn/szlcsc/C24154.jpg; LCSC Part Name: TP5400; Supplier Part: C2891434; Manufacturer Part: TP5400; Supplier Footprint: ESOP-8; Datasheet: https://atta.szlcsc.com/upload/public/pdf/source/20210909/352D9D40D77A1DD73F7904E364EF004B.pdf; Supplier: LCSC; FootprintName: ESOP-8_L4.9-W3.9-P1.27-LS6.0-BL-EP
footprint ESOP-8_L4.9-W3.9-P1.27-LS6.0-BL-EP
3D model ESOP-8_L4.9-W3.9-H1.6-LS6.0-P1.27
pins: 1 VOUT, 2 CHRG#, 3 PROG, 4 STDBY#, 5 VCC, 6 BAT, 7 GND, 8 LX, 9 GND

## TTP223-BA6
designator U?
Manufacturer: null; Add into BOM: yes; 3D Model: 229b69761e2c45dba6a83d8866dec72d; 3D Model Transform: v2:[2.410722045565656e-15,39.37007874015748,0,-39.37007874015748,2.410722045565656e-15,0,0,0,39.37007874015748,0.001,0.001,0]; ModelName: SOT-23-6_L2.9-W1.6-H1.5-LS2.8-P0.95; Symbol: TTP223-BA6; Device: TTP223-BA6; Convert to PCB: yes; Supplier: LCSC; Manufacturer Part: TTP223-BA6; Supplier Part: C80757; JLCPCB Part Class: Extended Part; FootprintName: SOT-23-6_L2.9-W1.6-P0.95-LS2.8-BL
footprint SOT-23-6_L2.9-W1.6-P0.95-LS2.8-BL
3D model SOT-23-6_L2.9-W1.6-H1.5-LS2.8-P0.95
pins: 1 Q, 2 VS, 3 I, 4 AHLB, 5 VDD, 6 TOB

## W25Q256JVEIQ_MINI
designator U?, comment W25Q256JVEIQ
接口类型:SPI;存储容量:256Mbit;时钟频率(fc):133MHz;; Manufacturer: Winbond(华邦); Symbol: W25Q256JVEIQTR; Device: W25Q256JVEIQ_C97522; AddInBom: yes; ModelId: 43ef51fbc8554229856bf47998ce0c31聨0819f05c4eef4c71ace90d822a990e87; ModelName: WSON-8_L8.0-W6.0-H0.78-P1.27; ModelTransform: 315.7474,236.22,0,90,0,0,0,0,0; Interface: SPI; Clock Frequency: 133MHz; Voltage - Supply: 2.7V~3.6V; Program / Erase Cycles: 100000次; Page Programming Time (Tpp): 700us; Block Erase Time(tBE): 120ms@(32KB); Data Retention - TDR (Year): 20年; LCSC Part Name: 具备双/四SPI接口的3V、256Mbit 串行闪存; SupplierPart: C97522; ManufacturerPart: W25Q256JVEIQ; Supplier Footprint: WSON-8-EP(6x8); JLCPCB Part Class: Extended Part; Datasheet: https://item.szlcsc.com/datasheet/W25Q256JVEIQ/98730.html; Supplier: LCSC; ConvertToPcb: yes; FootprintName: WSON-8_L8.0-W6.10-P1.27-BL-EP; Memory Size: 256Mbit; Operating Temperature: -40℃~+85℃
footprint WSON-8_L8.0-W6.10-P1.27-BL-EP-MINI (Footprint not found)
pins: 1 CS#, 2 DO(IO1), 3 WP#(IO2), 4 GND, 5 DI(IO0), 6 CLK, 7 HOLD# or RESET#(IO3), 8 VCC, 9 EP

## XL-1010RGBC-2812B
designator U?
0404幻彩透明  内置驱动IC    WS2812B; Manufacturer: XINGLIGHT(成兴光); Symbol: XL-1010RGBC-WS2812B; AddInBom: yes; ModelId: b6fa6106de37409d87b62d9524377e1c聨0819f05c4eef4c71ace90d822a990e87; ModelName: LED-SMD_4P-L1.0-W1.0-TL_XL-1010RGBC-WS2812B; ModelTransform: 39.37,39.40937,0,0,0,0,0,0,0; Wavelength: 620nm~625nm；465nm~475nm；520nm~530nm; Luminous Intensity: 300mcd；800mcd；200mcd; Fixed-Frequency Pwm Mode: 1kHz; Data Transmission Rate: 800Kbit/s; Voltage - Supply: 4.5V~5.5V; Quiescent Current: 0.35mA; Lens Color: 无色透明透镜; ESD Withstand Voltage: 2000V; Installation method: 正贴; Peak Wavelength: R:625nm；B:470nm；G:525nm; Viewing Angle: 120°; Device: XL-1010RGBC-2812B; LCSC Part Name: XL-1010RGBC-WS2812B; SupplierPart: C5349953; ManufacturerPart: XL-1010RGBC-2812B; Supplier Footprint: SMD,1x1mm; JLCPCB Part Class: Extended Part; Datasheet: https://item.szlcsc.com/datasheet/XL-1010RGBC-2812B/6136402.html; Supplier: LCSC; ConvertToPcb: yes; FootprintName: LED-SMD_4P-L1.0-W1.0-TL_XL-1010RGBC-WS2812B; Operating Temperature: -20℃~+85℃; Length: 1mm; Width: 0.8mm; Height: 1mm
footprint LED-SMD_4P-L1.0-W1.0-TL_XL-1010RGBC-WS2812B
pins: 1 DOUT, 2 VDD, 3 GND, 4 DIN